# Altium footprint library Connectors.PcbLib: 3 footprints
Each footprint in its own frame and in the unit in brackets; x right, y up, seen from the top. Pads: shape width x height; smd on the part's side, far side on the other; paste and mask are expansions set on the pad; w line width, h text height; cw(c..) or ccw(c..) is an arc to the next point about the centre after c.
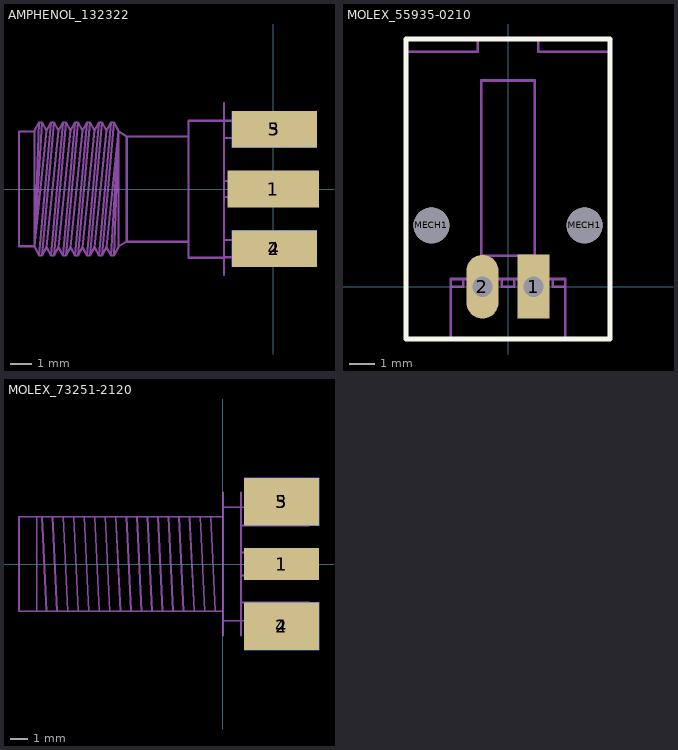
[diagram p0: the footprints below, top view; thin cyan lines are the x and y axes]

## AMPHENOL_132322 [mm] "RF Connector SMA PCB End Launch Jack 50 Ohm"
pads (5):
  rect 4.25x1.7 smd: 1(0,0)
  rect 3.95x1.7 smd: 2(0.05,-2.77) 3(0.05,2.77)
  rect 3.95x1.7 smd far side: 4(0.05,-2.77) 5(0.05,2.77)
Mechanical 1:
  lines w0.1: -2.3,-4 -2.3,4
Mechanical 13:
  lines w0.1: -11.115,2.668 -11.83,2.668 -11.83,-2.662 -11.115,-2.662 ; -7.195,-2.662 -6.82,-2.451 ; -3.95,-2.451 -6.82,-2.451 ; -3.95,2.45 -6.82,2.45 ; -2.3,-3.175 1.51,-3.175 1.51,-2.365 -2.3,-2.365 ; -2.3,2.365 1.51,2.365 1.51,3.175 -2.3,3.175 ; -2.267,-0.38 1.42,-0.38 1.52,-0.28 1.52,0.28 1.42,0.38 -2.267,0.38 ; -11.115,-2.662 -10.904,-3.091 ; -11.115,-2.662 -10.555,2.718 ; -11.115,-2.662 -11.115,2.718 -10.904,3.097 ; -11.115,-2.662 -10.904,3.097 ; -11.115,-2.662 -10.766,3.097 ; -10.904,-3.091 -10.766,-3.091 ; -10.904,-3.091 -10.344,3.097 ; -10.904,3.097 -10.766,3.097 ; -10.766,-3.091 -10.555,-2.712 ; -10.766,-3.091 -10.206,3.097 ; -10.766,3.097 -10.555,2.718 ; -10.555,-2.712 -10.344,-3.091 ; -10.555,-2.712 -9.995,2.718 ; -10.555,2.718 -10.344,3.097 ; -10.344,-3.091 -10.206,-3.091 ; -10.344,-3.091 -9.784,3.097 ; -10.344,3.097 -10.206,3.097 ; -10.206,-3.091 -9.995,-2.712 ; -10.206,-3.091 -9.646,3.097 ; -10.206,3.097 -9.995,2.718 ; -9.995,-2.712 -9.784,-3.091 ; -9.995,-2.712 -9.435,2.718 ; -9.995,2.718 -9.784,3.097 ; -9.784,-3.091 -9.646,-3.091 ; -9.784,-3.091 -9.224,3.097 ; -9.784,3.097 -9.646,3.097 ; -9.646,-3.091 -9.435,-2.712 ; -9.646,-3.091 -9.086,3.097 ; -9.646,3.097 -9.435,2.718 ; -9.435,-2.712 -9.224,-3.091 ; -9.435,-2.712 -8.875,2.718 ; -9.435,2.718 -9.224,3.097 ; -9.224,-3.091 -9.086,-3.091 ; -9.224,-3.091 -8.664,3.097 ; -9.224,3.097 -9.086,3.097 ; -9.086,-3.091 -8.875,-2.712 ; -9.086,-3.091 -8.526,3.097 ; -9.086,3.097 -8.875,2.718 ; -8.875,-2.712 -8.664,-3.091 ; -8.875,-2.712 -8.315,2.718 ; -8.875,2.718 -8.664,3.097 ; -8.664,-3.091 -8.526,-3.091 ; -8.664,-3.091 -8.104,3.097 ; -8.664,3.097 -8.526,3.097 ; -8.526,-3.091 -8.315,-2.712 ; -8.526,-3.091 -7.966,3.097 ; -8.526,3.097 -8.315,2.718 ; -8.315,-2.712 -8.104,-3.091 ; -8.315,-2.712 -7.755,2.718 ; -8.315,2.718 -8.104,3.097 ; -8.104,-3.091 -7.966,-3.091 ; -8.104,-3.091 -7.544,3.097 ; -8.104,3.097 -7.966,3.097 ; -7.966,-3.091 -7.755,-2.712 ; -7.966,-3.091 -7.406,3.097 ; -7.966,3.097 -7.755,2.718 ; -7.755,-2.712 -7.544,-3.091 ; -7.755,-2.712 -7.195,2.715 ; -7.755,2.718 -7.544,3.097 ; -7.544,-3.091 -7.406,-3.091 ; -7.544,-3.091 -7.195,2.715 ; -7.544,3.097 -7.406,3.097 ; -7.406,-3.091 -7.195,-2.712 -7.195,2.715 ; -7.406,-3.091 -7.195,2.668 -6.82,2.45 ; -7.406,3.097 -7.195,2.715 ; -6.82,-2.451 -6.82,2.45 ; -2.3,-2.4 -2.3,-3.2 -3.95,-3.2 -3.95,3.175 -2.3,3.175 ; -2.3,-2.4 -2.3,-2.4 ; -2.3,-2.4 -2.3,3.175 ; -2.3,-2.365 -2.3,-2.365 ; -2.3,3.175 -2.3,3.175
  text ".Designator" at -1.4,4 h1.5
3D body "132322.stp": height 3.56, standoff -2.79, extent -11.82,-3.175 1.52,3.175

## MOLEX_55935-0210 [mm]
height 6.7
pads (4):
  rect 1.25x2.5 hole 0.8: 1(1,0)
  oval 1.25x2.5 hole 0.8: 2(-1,0)
  round 1.4 hole 1.4: MECH1(-3,2.4) MECH1(3,2.4)
Top Overlay:
  lines w0.2: -4,-2.05 -4,9.7 4,9.7 4,-2.05 -4,-2.05
Mechanical 13:
  lines w0.1: -1.301,0.3 -1.301,-0.3 -0.701,-0.3 ; -1.191,9.195 -1.191,9.7 1.19,9.7 1.19,9.195 ; -1.191,9.2 -4,9.2 -4.001,-2.05 -2.251,-2.05 -2.251,0.3 ; -0.7,-0.3 -0.7,0.3 ; 0.7,0.3 0.7,-0.3 1.3,-0.3 1.3,0.3 ; 1.19,9.2 4,9.2 4,-2.05 2.25,-2.05 2.25,0.3 ; -2.251,0.3 2.25,0.3 ; -2.251,0.3 -2.251,0 -1.75,0 -1.75,0.3 -0.251,0.3 -0.251,0 0.25,0 0.25,0.3 1.75,0.3 1.75,0 2.25,0 2.25,0.3 ; -1.05,1.217 1.055,1.217 1.055,8.075 -1.05,8.075 -1.05,1.217
  text ".Designator" at -2.21,3.54 h2
3D body "559350210.stp": height 6.71, standoff -3.19, extent -4,-2.05 4,9.7

## MOLEX_73251-2120 [mm]
pads (5):
  rect 4.19x1.78 smd: 1(3.287,0)
  rect 4.19x2.665 smd: 2(3.287,-3.49) 3(3.287,3.49)
  rect 4.19x2.665 smd far side: 4(3.287,-3.49) 5(3.287,3.49)
Mechanical 1:
  lines w0.1: 0,-4 0,4 ; 1.016,-4 1.016,4
Mechanical 13:
  lines w0.1: -10.43,-2.65 -10.43,2.65 ; -10.137,2.65 -9.884,-2.639 ; -9.547,2.65 -9.294,-2.64 ; -8.956,2.65 -8.703,-2.64 ; -8.365,2.65 -8.112,-2.64 ; -7.774,2.65 -7.522,-2.64 ; -7.184,2.65 -6.931,-2.64 ; -6.593,2.65 -6.34,-2.639 ; -6.002,2.65 -5.75,-2.639 ; -5.412,2.65 -5.159,-2.639 ; -4.821,2.65 -4.568,-2.639 ; -4.23,2.651 -3.977,-2.639 ; -3.64,2.651 -3.387,-2.639 ; -3.049,2.651 -2.796,-2.639 ; -2.458,2.651 -2.205,-2.639 ; -1.868,2.651 -1.615,-2.639 ; -1.277,2.651 -1.024,-2.639 ; -0.686,2.651 -0.433,-2.639 ; -0.005,-2.65 -11.43,-2.65 -11.43,2.65 -0.005,2.65 ; 1.016,-2.159 4.826,-2.159 4.826,-3.175 1.016,-3.175 ; 1.016,2.159 4.826,2.159 4.826,3.175 1.016,3.175 ; 1.021,-0.65 4.516,-0.65 4.816,-0.35 4.816,0 4.816,0.35 4.516,0.65 1.021,0.65 ; 0,-3.175 1.016,-3.175 ; 0,-3.175 0,3.175 ; 0,-3.175 0,3.175 ; 0,3.175 1.016,3.175 ; 1.016,-3.175 1.016,3.175
  text ".Designator" at 2.225,-0.475 h1.5
3D body "732512120.stp": height 3.82, standoff -2.53, extent -11.43,-3.175 4.826,3.175